# EAGLE library part QTR-8A (library componenten aanmaken)
PIN HEADER
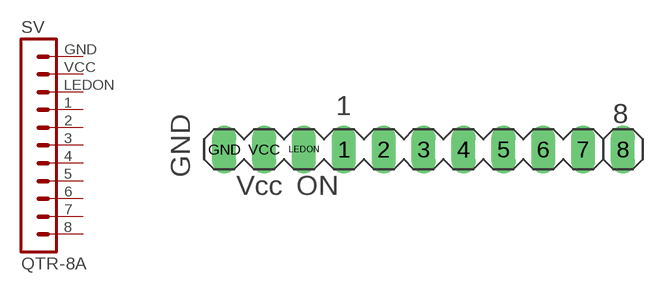
[diagram p38: symbol with the pads of MA10-1; footprint MA10-1]

Designator prefix SV

## QTR-8A (OC_FARNELL: unknown; OC_NEWARK: unknown)  [MA10-1]
1  1  pas
2  2  pas
3  3  pas
4  4  pas
5  5  pas
6  6  pas
7  7  pas
8  8  pas
GND  GND  pas
LEDON  LEDON  pas
VCC  VCC  pas

## Footprint MA10-1 (pad centres in mm)
PIN HEADER
drill 1.016 long: 1 -3.81,0; 2 -1.27,0; 3 1.27,0; 4 3.81,0; 5 6.35,0; 6 8.89,0; 7 11.43,0; 8 13.97,0; GND -11.43,0; LEDON -6.35,0; VCC -8.89,0